# EAGLE library part SPARK_M12 (library baseboard)
Header 12 Standard 12-pin 0.1" header. Use with straight break away headers (SKU : PRT-00116), right angle break away headers (PRT-00553), swiss pins (PRT-00743), machine pins (PRT-00117), and female headers (PRT-00115).
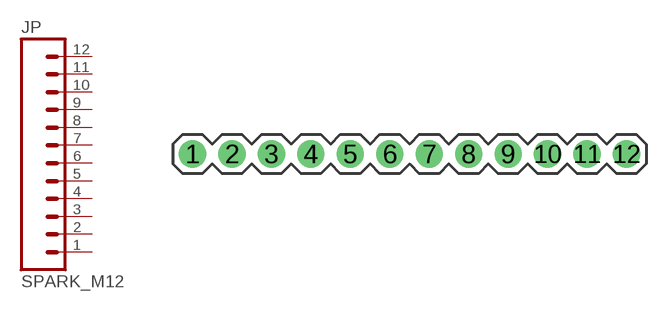
[diagram p2: symbol with the pads of SPARK_1X12-SMALL-PADS; footprint SPARK_1X12-SMALL-PADS]

Designator prefix JP

## SPARK_M12PTH  [SPARK_1X12-SMALL-PADS]
1  1  pas
2  2  pas
3  3  pas
4  4  pas
5  5  pas
6  6  pas
7  7  pas
8  8  pas
9  9  pas
10  10  pas
11  11  pas
12  12  pas

## Footprint SPARK_1X12-SMALL-PADS (pad centres in mm)
drill 0.889 pad 1.753: 1 0,0; 2 2.54,0; 3 5.08,0; 4 7.62,0; 5 10.16,0; 6 12.7,0; 7 15.24,0; 8 17.78,0; 9 20.32,0; 10 22.86,0; 11 25.4,0; 12 27.94,0